# Altium integrated library Texas Instruments Interface RS-422.IntLib: 548 symbols (part 15 of 15)
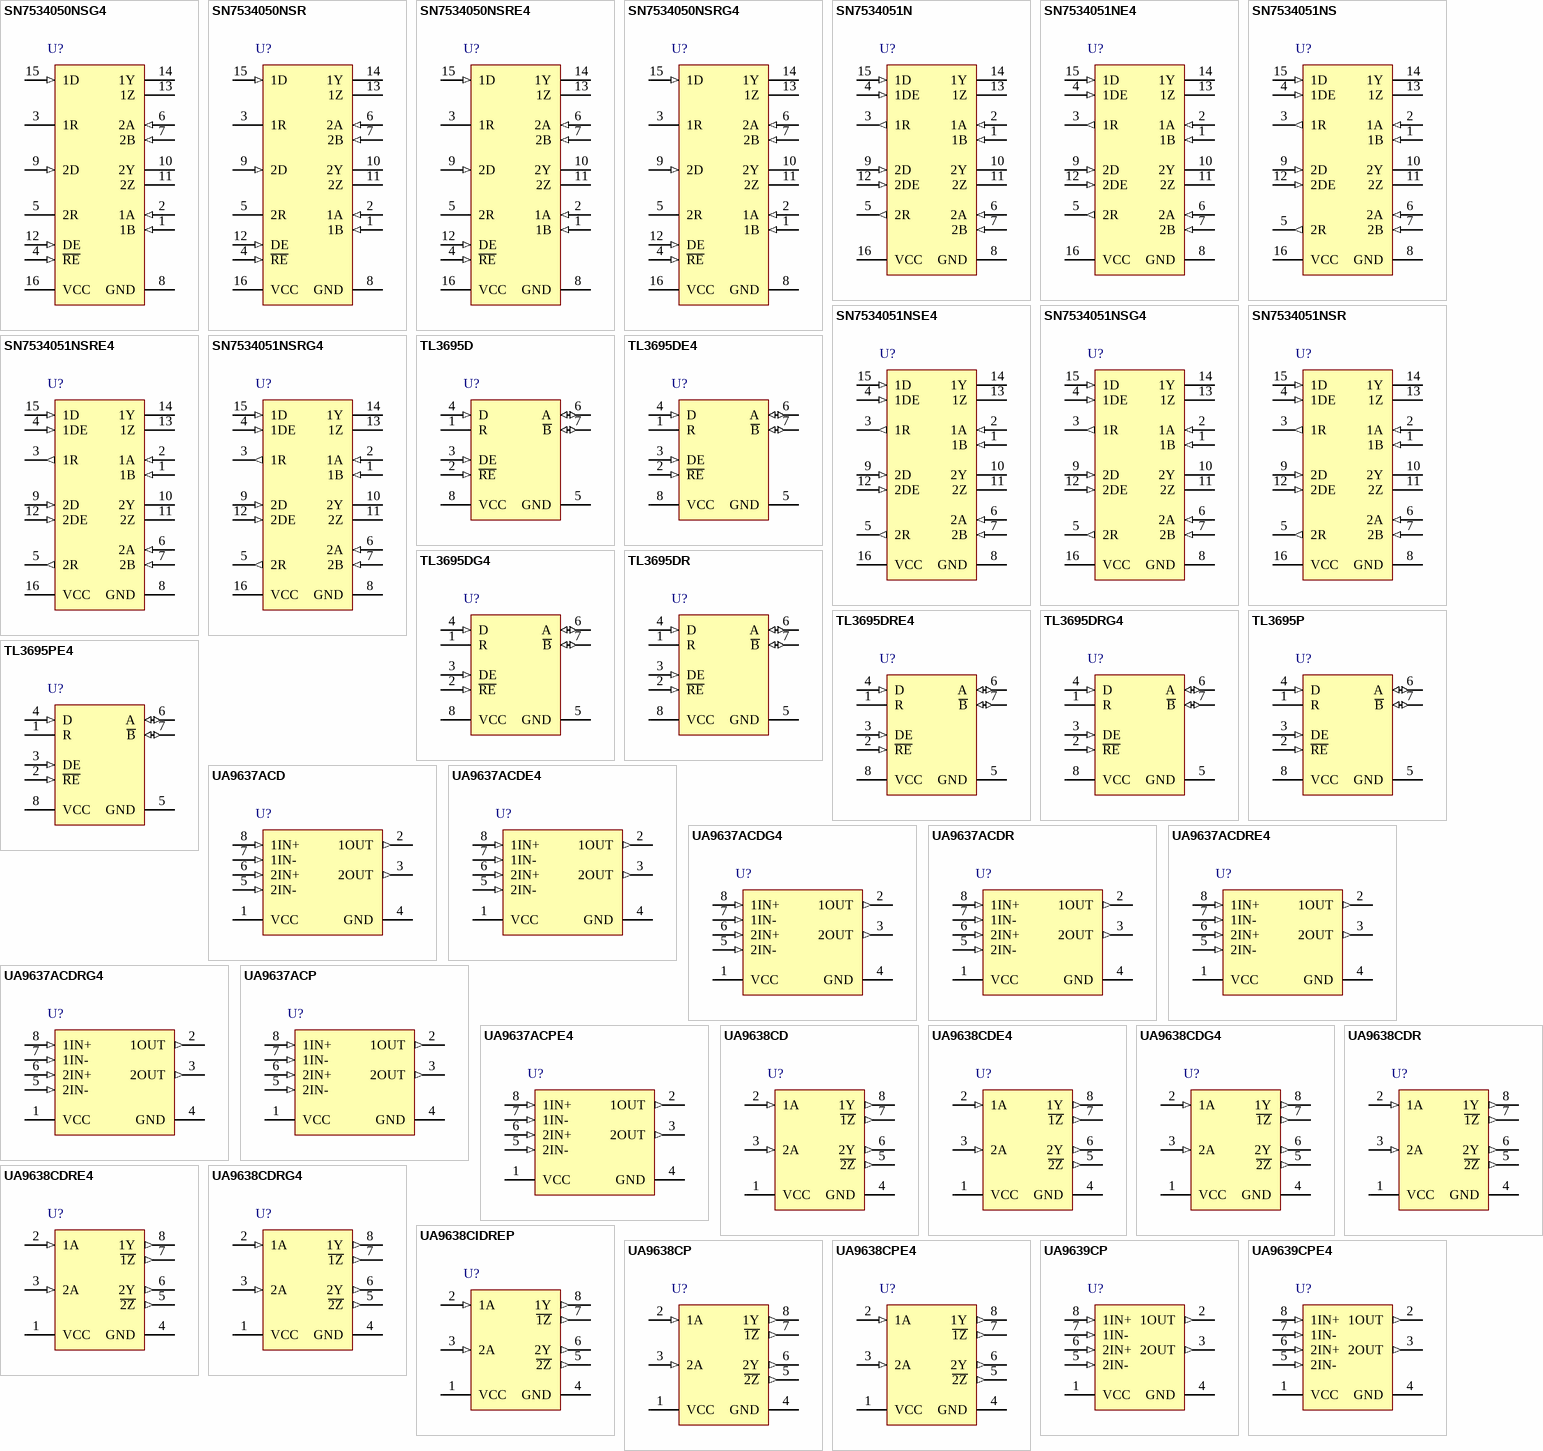
[diagram p29: symbols SN7534050NSG4 to UA9639CPE4]

## UA9637ACDRE4
designator U?
Dual Differential Line Receiver, 5V, 0 to 70 degC, 8-Pin SOIC (D), Green (RoHS & no Sb/Br); PartNumber: UA9637ACDRE4; Manufacturer: Texas Instruments; SubFamily: RS-422; Receivers Per Package: 2; # of TX/RX: 0 TX / 2 RX; ICC(Max)(mA): 50; Supply Voltage(s)(V): 5; Rating: Catalog; DatasheetVersion: SLLS111B; PackageVersion: revM, Jun-2011; PackageReference: D8; PackageDescription: 8-Pin Plastic Small Outline Integrated Circuit, 4.9 x 3.9 mm, Pitch 1.27 mm Pitch; Mounting Technology: Surface Mount; ESD(kV): 2; Footprint: uA9637; Code_JEDEC: MS-012AA; ComponentLink1Description: Datasheet; ComponentLink1URL: http://www.ti.com/general/docs/lit/getliterature.tsp?genericPartNumber=UA9637A&fileType=pdf; ComponentLink2Description: Package Specification; ComponentLink2URL: http://www.ti.com/lit/ml/msoi002j/msoi002j.pdf
footprint D8_N (SOIC, 8-Leads, Body 4.9x3.9mm, Pitch 1.27mm, IPC Medium Density)
footprint D8_L (SOIC, 8-Leads, Body 4.9x3.9mm, Pitch 1.27mm, IPC High Density)
footprint D8_M (SOIC, 8-Leads, Body 4.9x3.9mm, Pitch 1.27mm, IPC Low Density)
pins: 1 VCC (power), 2 1OUT (out), 3 2OUT (out), 4 GND (power), 5 2IN- (in), 6 2IN+ (in), 7 1IN- (in), 8 1IN+ (in)

## UA9637ACDRG4
designator U?
Dual Differential Line Receiver, 5V, 0 to 70 degC, 8-Pin SOIC (D), Green (RoHS & no Sb/Br); PartNumber: UA9637ACDRG4; Manufacturer: Texas Instruments; SubFamily: RS-422; Receivers Per Package: 2; # of TX/RX: 0 TX / 2 RX; ICC(Max)(mA): 50; Supply Voltage(s)(V): 5; Rating: Catalog; DatasheetVersion: SLLS111B; PackageVersion: revM, Jun-2011; PackageReference: D8; PackageDescription: 8-Pin Plastic Small Outline Integrated Circuit, 4.9 x 3.9 mm, Pitch 1.27 mm Pitch; Mounting Technology: Surface Mount; ESD(kV): 2; Footprint: uA9637; Code_JEDEC: MS-012AA; ComponentLink1Description: Datasheet; ComponentLink1URL: http://www.ti.com/general/docs/lit/getliterature.tsp?genericPartNumber=UA9637A&fileType=pdf; ComponentLink2Description: Package Specification; ComponentLink2URL: http://www.ti.com/lit/ml/msoi002j/msoi002j.pdf
footprint D8_N (SOIC, 8-Leads, Body 4.9x3.9mm, Pitch 1.27mm, IPC Medium Density)
footprint D8_L (SOIC, 8-Leads, Body 4.9x3.9mm, Pitch 1.27mm, IPC High Density)
footprint D8_M (SOIC, 8-Leads, Body 4.9x3.9mm, Pitch 1.27mm, IPC Low Density)
pins: 1 VCC (power), 2 1OUT (out), 3 2OUT (out), 4 GND (power), 5 2IN- (in), 6 2IN+ (in), 7 1IN- (in), 8 1IN+ (in)

## UA9637ACP
designator U?
Dual Differential Line Receiver, 5V, 0 to 70 degC, 8-Pin PDIP (P), Pb-Free (RoHS); PartNumber: UA9637ACP; Manufacturer: Texas Instruments; SubFamily: RS-422; Receivers Per Package: 2; # of TX/RX: 0 TX / 2 RX; ICC(Max)(mA): 50; Supply Voltage(s)(V): 5; Rating: Catalog; DatasheetVersion: SLLS111B; PackageVersion: revE, Apr-2010; PackageReference: P8; PackageDescription: 8-Pin Plastic Dual-In-Line Package, Row Spacing 7.62 mm, Pitch 2.54 mm; Mounting Technology: Through-hole; ESD(kV): 2; Footprint: uA9637; Code_JEDEC: MS-001-BA; ComponentLink1Description: Datasheet; ComponentLink1URL: http://www.ti.com/general/docs/lit/getliterature.tsp?genericPartNumber=UA9637A&fileType=pdf; ComponentLink2Description: Package Specification; ComponentLink2URL: http://www.ti.com/lit/ml/mpdi001b/mpdi001b.pdf
footprint P8 (DIP, 8-Leads, Row Spacing 7.62mm, Pitch 2.54mm, Body 9.6x6.4mm)
pins: 1 VCC (power), 2 1OUT (out), 3 2OUT (out), 4 GND (power), 5 2IN- (in), 6 2IN+ (in), 7 1IN- (in), 8 1IN+ (in)

## UA9637ACPE4
designator U?
Dual Differential Line Receiver, 5V, 0 to 70 degC, 8-Pin PDIP (P), Pb-Free (RoHS); PartNumber: UA9637ACPE4; Manufacturer: Texas Instruments; SubFamily: RS-422; Receivers Per Package: 2; # of TX/RX: 0 TX / 2 RX; ICC(Max)(mA): 50; Supply Voltage(s)(V): 5; Rating: Catalog; DatasheetVersion: SLLS111B; PackageVersion: revE, Apr-2010; PackageReference: P8; PackageDescription: 8-Pin Plastic Dual-In-Line Package, Row Spacing 7.62 mm, Pitch 2.54 mm; Mounting Technology: Through-hole; ESD(kV): 2; Footprint: uA9637; Code_JEDEC: MS-001-BA; ComponentLink1Description: Datasheet; ComponentLink1URL: http://www.ti.com/general/docs/lit/getliterature.tsp?genericPartNumber=UA9637A&fileType=pdf; ComponentLink2Description: Package Specification; ComponentLink2URL: http://www.ti.com/lit/ml/mpdi001b/mpdi001b.pdf
footprint P8 (DIP, 8-Leads, Row Spacing 7.62mm, Pitch 2.54mm, Body 9.6x6.4mm)
pins: 1 VCC (power), 2 1OUT (out), 3 2OUT (out), 4 GND (power), 5 2IN- (in), 6 2IN+ (in), 7 1IN- (in), 8 1IN+ (in)

## UA9638CD
designator U?
Dual High-Speed Differential Line Driver, 5V, 0 to 70 degC, 8-Pin SOIC (D), Green (RoHS & no Sb/Br); PartNumber: UA9638CD; Manufacturer: Texas Instruments; SubFamily: RS-422; Drivers Per Package: 2; # of TX/RX: 2 TX / 0 RX; ICC(Max)(mA): 65; Supply Voltage(s)(V): 5; Rating: Catalog; DatasheetVersion: SLLS112C; PackageVersion: revM, Jun-2011; PackageReference: D8; PackageDescription: 8-Pin Plastic Small Outline Integrated Circuit, 4.9 x 3.9 mm, Pitch 1.27 mm Pitch; Mounting Technology: Surface Mount; ESD(kV): 2; Footprint: uA9638; Code_JEDEC: MS-012AA; ComponentLink1Description: Datasheet; ComponentLink1URL: http://www.ti.com/general/docs/lit/getliterature.tsp?genericPartNumber=UA9638&fileType=pdf; ComponentLink2Description: Package Specification; ComponentLink2URL: http://www.ti.com/lit/ml/msoi002j/msoi002j.pdf
footprint D8_N (SOIC, 8-Leads, Body 4.9x3.9mm, Pitch 1.27mm, IPC Medium Density)
footprint D8_L (SOIC, 8-Leads, Body 4.9x3.9mm, Pitch 1.27mm, IPC High Density)
footprint D8_M (SOIC, 8-Leads, Body 4.9x3.9mm, Pitch 1.27mm, IPC Low Density)
pins: 1 VCC (power), 2 1A (in), 3 2A (in), 4 GND (power), 5 ~{2Z} (out), 6 2Y (out), 7 ~{1Z} (out), 8 1Y (out)

## UA9638CDE4
designator U?
Dual High-Speed Differential Line Driver, 5V, 0 to 70 degC, 8-Pin SOIC (D), Green (RoHS & no Sb/Br); PartNumber: UA9638CDE4; Manufacturer: Texas Instruments; SubFamily: RS-422; Drivers Per Package: 2; # of TX/RX: 2 TX / 0 RX; ICC(Max)(mA): 65; Supply Voltage(s)(V): 5; Rating: Catalog; DatasheetVersion: SLLS112C; PackageVersion: revM, Jun-2011; PackageReference: D8; PackageDescription: 8-Pin Plastic Small Outline Integrated Circuit, 4.9 x 3.9 mm, Pitch 1.27 mm Pitch; Mounting Technology: Surface Mount; ESD(kV): 2; Footprint: uA9638; Code_JEDEC: MS-012AA; ComponentLink1Description: Datasheet; ComponentLink1URL: http://www.ti.com/general/docs/lit/getliterature.tsp?genericPartNumber=UA9638&fileType=pdf; ComponentLink2Description: Package Specification; ComponentLink2URL: http://www.ti.com/lit/ml/msoi002j/msoi002j.pdf
footprint D8_N (SOIC, 8-Leads, Body 4.9x3.9mm, Pitch 1.27mm, IPC Medium Density)
footprint D8_L (SOIC, 8-Leads, Body 4.9x3.9mm, Pitch 1.27mm, IPC High Density)
footprint D8_M (SOIC, 8-Leads, Body 4.9x3.9mm, Pitch 1.27mm, IPC Low Density)
pins: 1 VCC (power), 2 1A (in), 3 2A (in), 4 GND (power), 5 ~{2Z} (out), 6 2Y (out), 7 ~{1Z} (out), 8 1Y (out)

## UA9638CDG4
designator U?
Dual High-Speed Differential Line Driver, 5V, 0 to 70 degC, 8-Pin SOIC (D), Green (RoHS & no Sb/Br); PartNumber: UA9638CDG4; Manufacturer: Texas Instruments; SubFamily: RS-422; Drivers Per Package: 2; # of TX/RX: 2 TX / 0 RX; ICC(Max)(mA): 65; Supply Voltage(s)(V): 5; Rating: Catalog; DatasheetVersion: SLLS112C; PackageVersion: revM, Jun-2011; PackageReference: D8; PackageDescription: 8-Pin Plastic Small Outline Integrated Circuit, 4.9 x 3.9 mm, Pitch 1.27 mm Pitch; Mounting Technology: Surface Mount; ESD(kV): 2; Footprint: uA9638; Code_JEDEC: MS-012AA; ComponentLink1Description: Datasheet; ComponentLink1URL: http://www.ti.com/general/docs/lit/getliterature.tsp?genericPartNumber=UA9638&fileType=pdf; ComponentLink2Description: Package Specification; ComponentLink2URL: http://www.ti.com/lit/ml/msoi002j/msoi002j.pdf
footprint D8_N (SOIC, 8-Leads, Body 4.9x3.9mm, Pitch 1.27mm, IPC Medium Density)
footprint D8_L (SOIC, 8-Leads, Body 4.9x3.9mm, Pitch 1.27mm, IPC High Density)
footprint D8_M (SOIC, 8-Leads, Body 4.9x3.9mm, Pitch 1.27mm, IPC Low Density)
pins: 1 VCC (power), 2 1A (in), 3 2A (in), 4 GND (power), 5 ~{2Z} (out), 6 2Y (out), 7 ~{1Z} (out), 8 1Y (out)

## UA9638CDR
designator U?
Dual High-Speed Differential Line Driver, 5V, 0 to 70 degC, 8-Pin SOIC (D), Green (RoHS & no Sb/Br); PartNumber: UA9638CDR; Manufacturer: Texas Instruments; SubFamily: RS-422; Drivers Per Package: 2; # of TX/RX: 2 TX / 0 RX; ICC(Max)(mA): 65; Supply Voltage(s)(V): 5; Rating: Catalog; DatasheetVersion: SLLS112C; PackageVersion: revM, Jun-2011; PackageReference: D8; PackageDescription: 8-Pin Plastic Small Outline Integrated Circuit, 4.9 x 3.9 mm, Pitch 1.27 mm Pitch; Mounting Technology: Surface Mount; ESD(kV): 2; Footprint: uA9638; Code_JEDEC: MS-012AA; ComponentLink1Description: Datasheet; ComponentLink1URL: http://www.ti.com/general/docs/lit/getliterature.tsp?genericPartNumber=UA9638&fileType=pdf; ComponentLink2Description: Package Specification; ComponentLink2URL: http://www.ti.com/lit/ml/msoi002j/msoi002j.pdf
footprint D8_N (SOIC, 8-Leads, Body 4.9x3.9mm, Pitch 1.27mm, IPC Medium Density)
footprint D8_L (SOIC, 8-Leads, Body 4.9x3.9mm, Pitch 1.27mm, IPC High Density)
footprint D8_M (SOIC, 8-Leads, Body 4.9x3.9mm, Pitch 1.27mm, IPC Low Density)
pins: 1 VCC (power), 2 1A (in), 3 2A (in), 4 GND (power), 5 ~{2Z} (out), 6 2Y (out), 7 ~{1Z} (out), 8 1Y (out)

## UA9638CDRE4
designator U?
Dual High-Speed Differential Line Driver, 5V, 0 to 70 degC, 8-Pin SOIC (D), Green (RoHS & no Sb/Br); PartNumber: UA9638CDRE4; Manufacturer: Texas Instruments; SubFamily: RS-422; Drivers Per Package: 2; # of TX/RX: 2 TX / 0 RX; ICC(Max)(mA): 65; Supply Voltage(s)(V): 5; Rating: Catalog; DatasheetVersion: SLLS112C; PackageVersion: revM, Jun-2011; PackageReference: D8; PackageDescription: 8-Pin Plastic Small Outline Integrated Circuit, 4.9 x 3.9 mm, Pitch 1.27 mm Pitch; Mounting Technology: Surface Mount; ESD(kV): 2; Footprint: uA9638; Code_JEDEC: MS-012AA; ComponentLink1Description: Datasheet; ComponentLink1URL: http://www.ti.com/general/docs/lit/getliterature.tsp?genericPartNumber=UA9638&fileType=pdf; ComponentLink2Description: Package Specification; ComponentLink2URL: http://www.ti.com/lit/ml/msoi002j/msoi002j.pdf
footprint D8_N (SOIC, 8-Leads, Body 4.9x3.9mm, Pitch 1.27mm, IPC Medium Density)
footprint D8_L (SOIC, 8-Leads, Body 4.9x3.9mm, Pitch 1.27mm, IPC High Density)
footprint D8_M (SOIC, 8-Leads, Body 4.9x3.9mm, Pitch 1.27mm, IPC Low Density)
pins: 1 VCC (power), 2 1A (in), 3 2A (in), 4 GND (power), 5 ~{2Z} (out), 6 2Y (out), 7 ~{1Z} (out), 8 1Y (out)

## UA9638CDRG4
designator U?
Dual High-Speed Differential Line Driver, 5V, 0 to 70 degC, 8-Pin SOIC (D), Green (RoHS & no Sb/Br); PartNumber: UA9638CDRG4; Manufacturer: Texas Instruments; SubFamily: RS-422; Drivers Per Package: 2; # of TX/RX: 2 TX / 0 RX; ICC(Max)(mA): 65; Supply Voltage(s)(V): 5; Rating: Catalog; DatasheetVersion: SLLS112C; PackageVersion: revM, Jun-2011; PackageReference: D8; PackageDescription: 8-Pin Plastic Small Outline Integrated Circuit, 4.9 x 3.9 mm, Pitch 1.27 mm Pitch; Mounting Technology: Surface Mount; ESD(kV): 2; Footprint: uA9638; Code_JEDEC: MS-012AA; ComponentLink1Description: Datasheet; ComponentLink1URL: http://www.ti.com/general/docs/lit/getliterature.tsp?genericPartNumber=UA9638&fileType=pdf; ComponentLink2Description: Package Specification; ComponentLink2URL: http://www.ti.com/lit/ml/msoi002j/msoi002j.pdf
footprint D8_N (SOIC, 8-Leads, Body 4.9x3.9mm, Pitch 1.27mm, IPC Medium Density)
footprint D8_L (SOIC, 8-Leads, Body 4.9x3.9mm, Pitch 1.27mm, IPC High Density)
footprint D8_M (SOIC, 8-Leads, Body 4.9x3.9mm, Pitch 1.27mm, IPC Low Density)
pins: 1 VCC (power), 2 1A (in), 3 2A (in), 4 GND (power), 5 ~{2Z} (out), 6 2Y (out), 7 ~{1Z} (out), 8 1Y (out)

## UA9638CIDREP
designator U?
Enhanced Product Dual High-Speed Differential Line Driver, 5V, -40 to 85 degC, 8-Pin SOIC (D), Green (RoHS & no Sb/Br); PartNumber: UA9638CIDREP; Manufacturer: Texas Instruments; SubFamily: RS-422; Drivers Per Package: 2; # of TX/RX: 2 TX / 0 RX; ICC(Max)(mA): 65; Receiver tpd(ns): 20; Supply Voltage(s)(V): 5; Supply Voltage(s)(Max)(V): 5.25; Supply Voltage(s)(Min)(V): 4.75; Rating: HiRel Enhanced Product; DatasheetVersion: SLLSEA4A; PackageVersion: revM, Jun-2011; PackageReference: D8; PackageDescription: 8-Pin Plastic Small Outline Integrated Circuit, 4.9 x 3.9 mm, Pitch 1.27 mm Pitch; Mounting Technology: Surface Mount; ESD(kV): 2; Footprint: UA9638; Code_JEDEC: MS-012AA; ComponentLink1Description: Datasheet; ComponentLink1URL: http://www.ti.com/general/docs/lit/getliterature.tsp?genericPartNumber=UA9638C-EP&fileType=pdf; ComponentLink2Description: Package Specification; ComponentLink2URL: http://www.ti.com/lit/ml/msoi002j/msoi002j.pdf
footprint D8_N (SOIC, 8-Leads, Body 4.9x3.9mm, Pitch 1.27mm, IPC Medium Density)
footprint D8_L (SOIC, 8-Leads, Body 4.9x3.9mm, Pitch 1.27mm, IPC High Density)
footprint D8_M (SOIC, 8-Leads, Body 4.9x3.9mm, Pitch 1.27mm, IPC Low Density)
pins: 1 VCC (power), 2 1A (in), 3 2A (in), 4 GND (power), 5 ~{2Z} (out), 6 2Y (out), 7 ~{1Z} (out), 8 1Y (out)

## UA9638CP
designator U?
Dual High-Speed Differential Line Driver, 5V, 0 to 70 degC, 8-Pin PDIP (P), Green (RoHS & no Sb/Br); PartNumber: UA9638CP; Manufacturer: Texas Instruments; SubFamily: RS-422; Drivers Per Package: 2; # of TX/RX: 2 TX / 0 RX; ICC(Max)(mA): 65; Supply Voltage(s)(V): 5; Rating: Catalog; DatasheetVersion: SLLS112C; PackageVersion: revE, Apr-2010; PackageReference: P8; PackageDescription: 8-Pin Plastic Dual-In-Line Package, Row Spacing 7.62 mm, Pitch 2.54 mm; Mounting Technology: Through-hole; ESD(kV): 2; Footprint: uA9638; Code_JEDEC: MS-001-BA; ComponentLink1Description: Datasheet; ComponentLink1URL: http://www.ti.com/general/docs/lit/getliterature.tsp?genericPartNumber=UA9638&fileType=pdf; ComponentLink2Description: Package Specification; ComponentLink2URL: http://www.ti.com/lit/ml/mpdi001b/mpdi001b.pdf
footprint P8 (DIP, 8-Leads, Row Spacing 7.62mm, Pitch 2.54mm, Body 9.6x6.4mm)
pins: 1 VCC (power), 2 1A (in), 3 2A (in), 4 GND (power), 5 ~{2Z} (out), 6 2Y (out), 7 ~{1Z} (out), 8 1Y (out)

## UA9638CPE4
designator U?
Dual High-Speed Differential Line Driver, 5V, 0 to 70 degC, 8-Pin PDIP (P), Green (RoHS & no Sb/Br); PartNumber: UA9638CPE4; Manufacturer: Texas Instruments; SubFamily: RS-422; Drivers Per Package: 2; # of TX/RX: 2 TX / 0 RX; ICC(Max)(mA): 65; Supply Voltage(s)(V): 5; Rating: Catalog; DatasheetVersion: SLLS112C; PackageVersion: revE, Apr-2010; PackageReference: P8; PackageDescription: 8-Pin Plastic Dual-In-Line Package, Row Spacing 7.62 mm, Pitch 2.54 mm; Mounting Technology: Through-hole; ESD(kV): 2; Footprint: uA9638; Code_JEDEC: MS-001-BA; ComponentLink1Description: Datasheet; ComponentLink1URL: http://www.ti.com/general/docs/lit/getliterature.tsp?genericPartNumber=UA9638&fileType=pdf; ComponentLink2Description: Package Specification; ComponentLink2URL: http://www.ti.com/lit/ml/mpdi001b/mpdi001b.pdf
footprint P8 (DIP, 8-Leads, Row Spacing 7.62mm, Pitch 2.54mm, Body 9.6x6.4mm)
pins: 1 VCC (power), 2 1A (in), 3 2A (in), 4 GND (power), 5 ~{2Z} (out), 6 2Y (out), 7 ~{1Z} (out), 8 1Y (out)

## UA9639CP
designator U?
Dual Differential Line Receiver, 5V, 0 to 70 degC, 8-Pin PDIP (P), Pb-Free (RoHS); PartNumber: UA9639CP; Manufacturer: Texas Instruments; SubFamily: RS-422; Receivers Per Package: 2; # of TX/RX: 0 TX / 2 RX; ICC(Max)(mA): 50; Supply Voltage(s)(V): 5; Rating: Catalog; DatasheetVersion: SLLS113C; PackageVersion: revE, Apr-2010; PackageReference: P8; PackageDescription: 8-Pin Plastic Dual-In-Line Package, Row Spacing 7.62 mm, Pitch 2.54 mm; Mounting Technology: Through-hole; ESD(kV): 2; Footprint: uA9639; Code_JEDEC: MS-001-BA; ComponentLink1Description: Datasheet; ComponentLink1URL: http://www.ti.com/general/docs/lit/getliterature.tsp?genericPartNumber=UA9639&fileType=pdf; ComponentLink2Description: Package Specification; ComponentLink2URL: http://www.ti.com/lit/ml/mpdi001b/mpdi001b.pdf
footprint P8 (DIP, 8-Leads, Row Spacing 7.62mm, Pitch 2.54mm, Body 9.6x6.4mm)
pins: 1 VCC (power), 2 1OUT (out), 3 2OUT (out), 4 GND (power), 5 2IN- (in), 6 2IN+ (in), 7 1IN- (in), 8 1IN+ (in)

## UA9639CPE4
designator U?
Dual Differential Line Receiver, 0 TX / 2 RX, 5V, 0 to 70 degC, 8-Pin PDIP (P), Pb-Free (RoHS); PartNumber: UA9639CPE4; Manufacturer: Texas Instruments; SubFamily: RS-422; Receivers Per Package: 2; ICC(Max)(mA): 50; Supply Voltage(s)(V): 5; Rating: Catalog; DatasheetVersion: SLLS113C; PackageVersion: revE, Apr-2010; PackageReference: P8; PackageDescription: 8-Pin Plastic Dual-In-Line Package, Row Spacing 7.62 mm, Pitch 2.54 mm; Mounting Technology: Through-hole; # of TX/RX: 0 TX / 2 RX; ESD(kV): 2; Footprint: uA9639; Code_JEDEC: MS-001-BA; ComponentLink1Description: Datasheet; ComponentLink1URL: http://www.ti.com/general/docs/lit/getliterature.tsp?genericPartNumber=UA9639&fileType=pdf; ComponentLink2Description: Package Specification; ComponentLink2URL: http://www.ti.com/lit/ml/mpdi001b/mpdi001b.pdf
footprint P8 (DIP, 8-Leads, Row Spacing 7.62mm, Pitch 2.54mm, Body 9.6x6.4mm)
pins: 1 VCC (power), 2 1OUT (out), 3 2OUT (out), 4 GND (power), 5 2IN- (in), 6 2IN+ (in), 7 1IN- (in), 8 1IN+ (in)

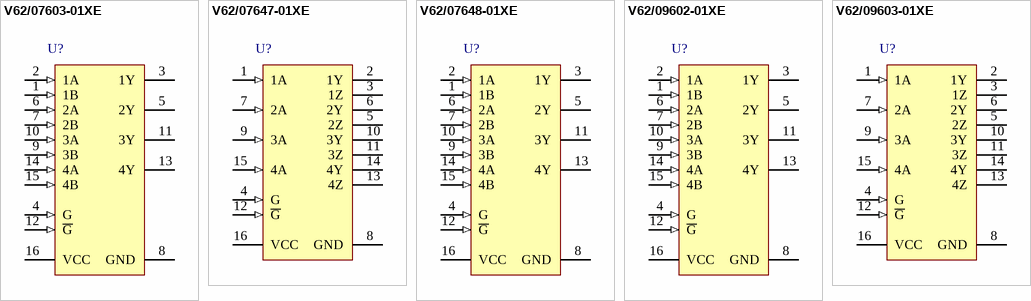
[diagram p15: symbols V62/07603-01XE to V62/09603-01XE]

## V62/07603-01XE
designator U?
Enhanced Product Quadruple Differential Line Receiver, 0 TX / 4 RX, 5V, -55 to 125 degC, 16-Pin SOIC (D), Green (RoHS & no Sb/Br); PartNumber: V62/07603-01XE; Manufacturer: Texas Instruments; SubFamily: RS-422; ICC(Max)(mA): 70; Supply Voltage(s)(V): 5; Rating: HiRel Enhanced Product; DatasheetVersion: SLLS730; PackageVersion: revM, Jun-2011; PackageReference: D16; PackageDescription: 16-Pin Plastic Small Outline Integrated Circuit, 9.9 x 3.9 mm, Pitch 1.27 mm Pitch; Mounting Technology: Surface Mount; Eco-Plan: Green (RoHS & no Sb/Br); # of TX/RX: 0 TX / 4 RX; Code_JEDEC: MS-012AC; ComponentLink1Description: Datasheet; ComponentLink1URL: http://www.ti.com/general/docs/lit/getliterature.tsp?genericPartNumber=AM26LS32AM-EP&fileType=pdf; ComponentLink2Description: Package Specification; ComponentLink2URL: http://www.ti.com/litv/pdf/mpds178g
footprint D16_N (SOIC, 16-Leads, Body 9.9x3.9mm, Pitch 1.27mm, IPC Medium Density)
footprint D16_L (SOIC, 16-Leads, Body 9.9x3.9mm, Pitch 1.27mm, IPC High Density)
footprint D16_M (SOIC, 16-Leads, Body 9.9x3.9mm, Pitch 1.27mm, IPC Low Density)
pins: 1 1B (in), 2 1A (in), 3 1Y (hiz), 4 G (in), 5 2Y (hiz), 6 2A (in), 7 2B (in), 8 GND (power), 9 3B (in), 10 3A (in), 11 3Y (hiz), 12 ~{G} (in), 13 4Y (hiz), 14 4A (in), 15 4B (in), 16 VCC (power)

## V62/07647-01XE
designator U?
Enhanced Product Quadruple Differential Line Driver, 4 TX / 0 RX, -55 to 125 degC, 16-Pin SOIC (D), Green (RoHS & no Sb/Br); PartNumber: V62/07647-01XE; Manufacturer: Texas Instruments; SubFamily: RS-422; Drivers Per Package: 4; ICC(Max)(mA): 3.2; Supply Voltage(s)(V): 5; Rating: HiRel Enhanced Product; DatasheetVersion: SLLS871; PackageVersion: revM, Jun-2011; PackageReference: D16; PackageDescription: 16-Pin Plastic Small Outline Integrated Circuit, 9.9 x 3.9 mm, Pitch 1.27 mm Pitch; Mounting Technology: Surface Mount; Eco-Plan: Green (RoHS & no Sb/Br); # of TX/RX: 4 TX / 0 RX; Code_JEDEC: MS-012AC; ComponentLink1Description: Datasheet; ComponentLink1URL: http://www.ti.com/general/docs/lit/getliterature.tsp?genericPartNumber=AM26C31-EP&fileType=pdf; ComponentLink2Description: Package Specification; ComponentLink2URL: http://www.ti.com/litv/pdf/mpds178g
footprint D16_N (SOIC, 16-Leads, Body 9.9x3.9mm, Pitch 1.27mm, IPC Medium Density)
footprint D16_L (SOIC, 16-Leads, Body 9.9x3.9mm, Pitch 1.27mm, IPC High Density)
footprint D16_M (SOIC, 16-Leads, Body 9.9x3.9mm, Pitch 1.27mm, IPC Low Density)
pins: 1 1A (in), 2 1Y (hiz), 3 1Z (hiz), 4 G (in), 5 2Z (hiz), 6 2Y (hiz), 7 2A (in), 8 GND (power), 9 3A (in), 10 3Y (hiz), 11 3Z (hiz), 12 ~{G} (in), 13 4Z (hiz), 14 4Y (hiz), 15 4A (in), 16 VCC (power)

## V62/07648-01XE
designator U?
Enhanced Product Quadruple Differential Line Receiver, 0 TX / 4 RX, 5V, -55 to 125 degC, 16-Pin SOIC (D), Green (RoHS & no Sb/Br); PartNumber: V62/07648-01XE; Manufacturer: Texas Instruments; SubFamily: RS-422; Receivers Per Package: 4; ICC(Max)(mA): 15; Supply Voltage(s)(V): 5; Rating: HiRel Enhanced Product; DatasheetVersion: SLLS870; PackageVersion: revM, Jun-2011; PackageReference: D16; PackageDescription: 16-Pin Plastic Small Outline Integrated Circuit, 9.9 x 3.9 mm, Pitch 1.27 mm Pitch; Mounting Technology: Surface Mount; Eco-Plan: Green (RoHS & no Sb/Br); # of TX/RX: 0 TX / 4 RX; Code_JEDEC: MS-012AC; ComponentLink1Description: Datasheet; ComponentLink1URL: http://www.ti.com/general/docs/lit/getliterature.tsp?genericPartNumber=AM26C32-EP&fileType=pdf; ComponentLink2Description: Package Specification; ComponentLink2URL: http://www.ti.com/litv/pdf/mpds178g
footprint D16_N (SOIC, 16-Leads, Body 9.9x3.9mm, Pitch 1.27mm, IPC Medium Density)
footprint D16_L (SOIC, 16-Leads, Body 9.9x3.9mm, Pitch 1.27mm, IPC High Density)
footprint D16_M (SOIC, 16-Leads, Body 9.9x3.9mm, Pitch 1.27mm, IPC Low Density)
pins: 1 1B (in), 2 1A (in), 3 1Y (hiz), 4 G (in), 5 2Y (hiz), 6 2A (in), 7 2B (in), 8 GND (power), 9 3B (in), 10 3A (in), 11 3Y (hiz), 12 ~{G} (in), 13 4Y (hiz), 14 4A (in), 15 4B (in), 16 VCC (power)

## V62/09602-01XE
designator U?
Enhanced Product Low-Voltage High-Speed Quad Differential Line Receiver, +/-15 kV IEC ESD, 0 TX / 4 RX, 3.3V, -55 to 125 degC, 16-Pin SOIC (D), Green (RoHS & no Sb/Br); PartNumber: V62/09602-01XE; Manufacturer: Texas Instruments; SubFamily: RS-422; Receivers Per Package: 4; Supply Voltage(s)(V): 3.3; Supply Voltage(s)(Max)(V): 3.6; Supply Voltage(s)(Min)(V): 3; ESD(kV): 15; Rating: HiRel Enhanced Product; DatasheetVersion: SLLS948; PackageVersion: revM, Jun-2011; PackageReference: D16; PackageDescription: 16-Pin Plastic Small Outline Integrated Circuit, 9.9 x 3.9 mm, Pitch 1.27 mm Pitch; Mounting Technology: Surface Mount; Eco-Plan: Green (RoHS & no Sb/Br); # of TX/RX: 0 TX / 4 RX; Code_JEDEC: MS-012AC; ComponentLink1Description: Datasheet; ComponentLink1URL: http://www.ti.com/general/docs/lit/getliterature.tsp?genericPartNumber=AM26LV32E-EP&fileType=pdf; ComponentLink2Description: Package Specification; ComponentLink2URL: http://www.ti.com/litv/pdf/mpds178g
footprint D16_N (SOIC, 16-Leads, Body 9.9x3.9mm, Pitch 1.27mm, IPC Medium Density)
footprint D16_L (SOIC, 16-Leads, Body 9.9x3.9mm, Pitch 1.27mm, IPC High Density)
footprint D16_M (SOIC, 16-Leads, Body 9.9x3.9mm, Pitch 1.27mm, IPC Low Density)
pins: 1 1B (in), 2 1A (in), 3 1Y (hiz), 4 G (in), 5 2Y (hiz), 6 2A (in), 7 2B (in), 8 GND (power), 9 3B (in), 10 3A (in), 11 3Y (hiz), 12 ~{G} (in), 13 4Y (hiz), 14 4A (in), 15 4B (in), 16 VCC (power)

## V62/09603-01XE
designator U?
Enhanced Product Low-Voltage High-Speed Quad Differential Line Driver, +/-15-kV IEC ESD Protection, 4 TX / 0 RX, 3.3V, -55 to 105 degC, 16-Pin SOIC (D), Green (RoHS & no Sb/Br); PartNumber: V62/09603-01XE; Manufacturer: Texas Instruments; SubFamily: RS-422; Drivers Per Package: 4; ICC(Max)(mA): 0.1; Supply Voltage(s)(V): 3.3; Supply Voltage(s)(Max)(V): 3.6; Supply Voltage(s)(Min)(V): 3; ESD(kV): 15; Rating: HiRel Enhanced Product; DatasheetVersion: SLLS947; PackageVersion: revM, Jun-2011; PackageReference: D16; PackageDescription: 16-Pin Plastic Small Outline Integrated Circuit, 9.9 x 3.9 mm, Pitch 1.27 mm Pitch; Mounting Technology: Surface Mount; Eco-Plan: Green (RoHS & no Sb/Br); # of TX/RX: 4 TX / 0 RX; Code_JEDEC: MS-012AC; ComponentLink1Description: Datasheet; ComponentLink1URL: http://www.ti.com/general/docs/lit/getliterature.tsp?genericPartNumber=AM26LV31E-EP&fileType=pdf; ComponentLink2Description: Package Specification; ComponentLink2URL: http://www.ti.com/litv/pdf/mpds178g
footprint D16_N (SOIC, 16-Leads, Body 9.9x3.9mm, Pitch 1.27mm, IPC Medium Density)
footprint D16_L (SOIC, 16-Leads, Body 9.9x3.9mm, Pitch 1.27mm, IPC High Density)
footprint D16_M (SOIC, 16-Leads, Body 9.9x3.9mm, Pitch 1.27mm, IPC Low Density)
pins: 1 1A (in), 2 1Y (hiz), 3 1Z (hiz), 4 G (in), 5 2Z (hiz), 6 2Y (hiz), 7 2A (in), 8 GND (power), 9 3A (in), 10 3Y (hiz), 11 3Z (hiz), 12 ~{G} (in), 13 4Z (hiz), 14 4Y (hiz), 15 4A (in), 16 VCC (power)